# Altium schematic symbol library Schlib1.SchLib: 2 symbols
Pins are listed as number, name and electrical type; pins without a type are passive.

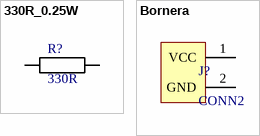
[diagram p0: symbols 330R_0.25W to Bornera]

## 330R_0.25W
designator R?, comment 330R
X
footprint 330R_8mil_0.25m
pins: 1, 2

## Bornera
designator J?, comment CONN2
footprint CONN2
pins: 1 VCC, 2 GND